# Altium footprint library WR-TBL_Spring Clamp_3.50mm.PcbLib: 32 footprints (part 2 of 2)
Each footprint in its own frame and in the unit in brackets; x right, y up, seen from the top. Pads: shape width x height; smd on the part's side, far side on the other; paste and mask are expansions set on the pad; w line width, h text height; cw(c..) or ccw(c..) is an arc to the next point about the centre after c.
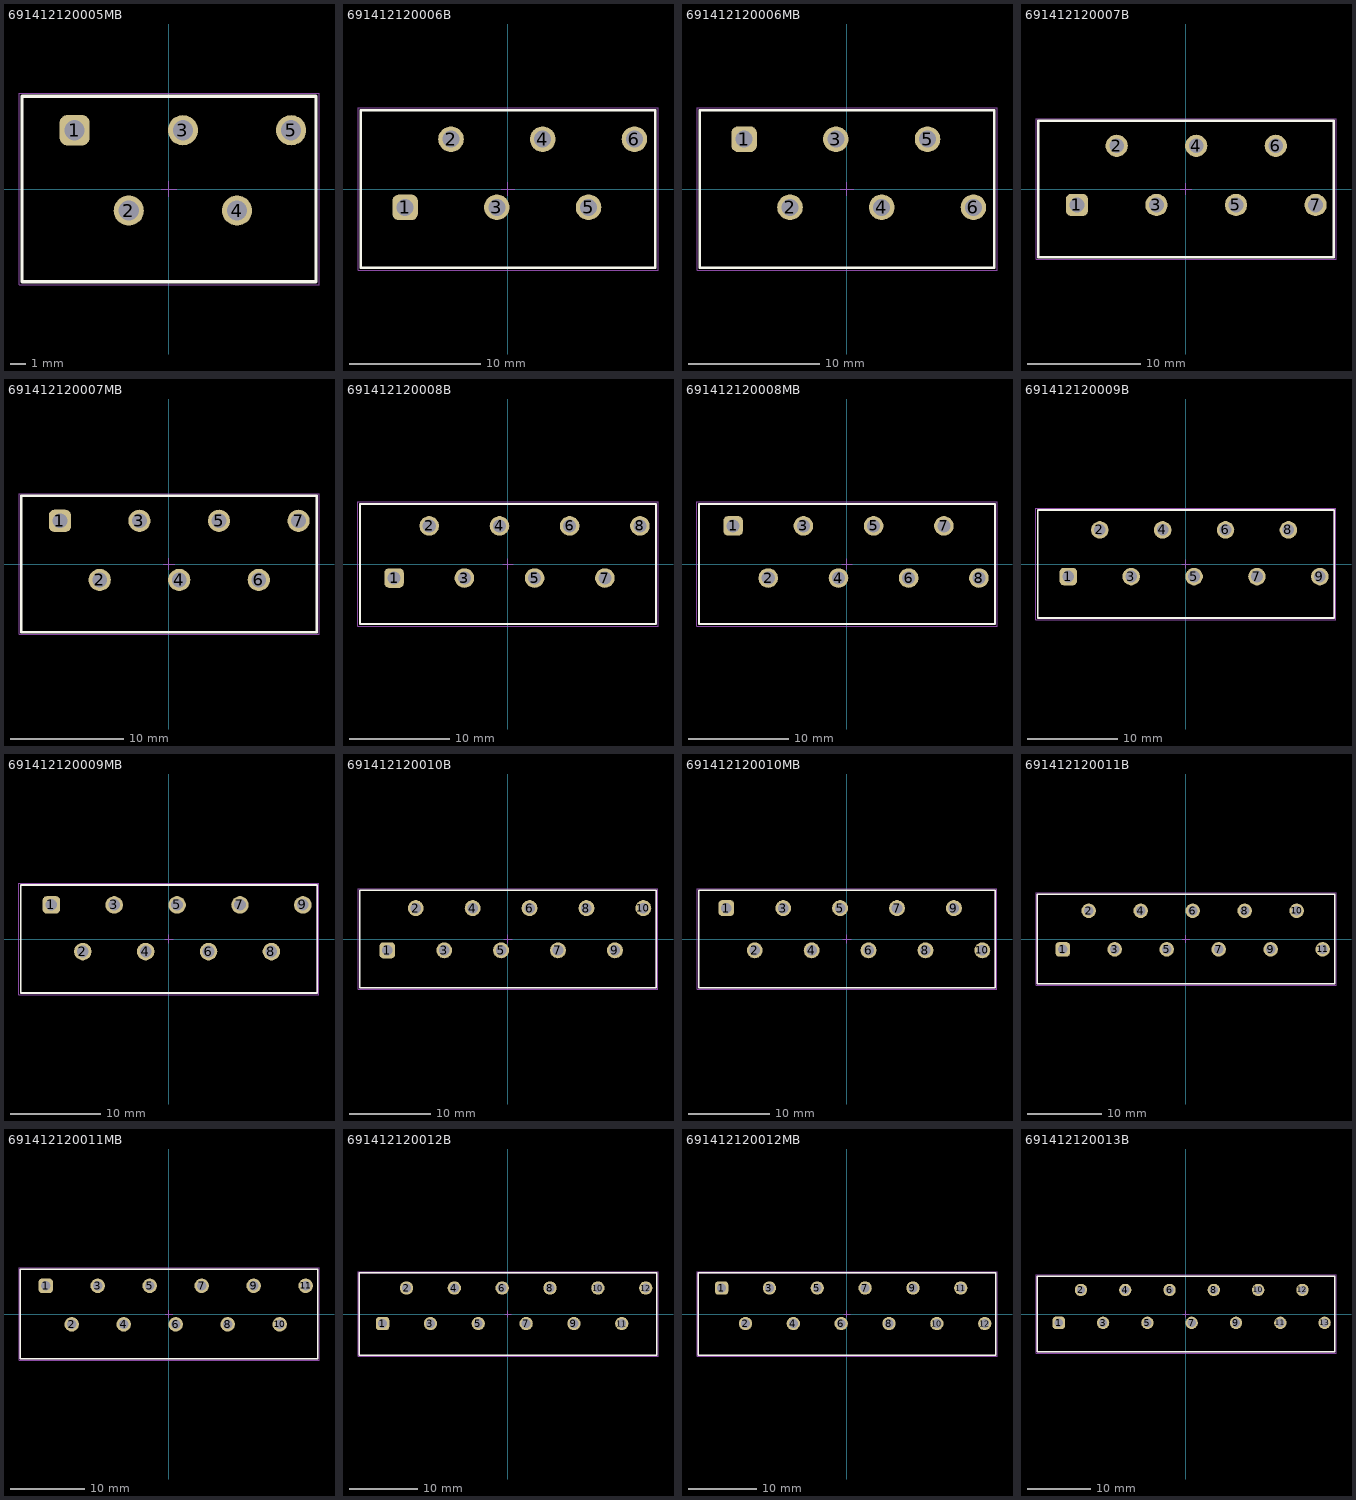
[diagram p1: the footprints below, top view; thin cyan lines are the x and y axes]

## 691412120005MB [mm] "3,5mm - Spring clamp/Screw less - 45¡ã entry - 05p"
height 11.5
pads (5):
  rrect50% 1.95x1.95 hole 1.3: 1(-6.1,3.8)
  round 1.95 hole 1.3: 2(-2.6,-1.4) 3(0.9,3.8) 4(4.4,-1.4) 5(7.9,3.8)
Top Overlay:
  lines w0.2: -9.5,-6 9.5,-6 9.5,6 -9.5,6 -9.5,-6
Top Designator:
  text ".Designator" at -7.498,-0.5 h1.5
Top Component Outline:
  lines w0.1: -9.5,-6 -9.5,6 9.5,6 9.5,-6 -9.5,-6
Top 3D Body:
  lines w0.1: -9.5,-6 9.5,-6 9.5,6 -9.5,6 -9.5,-6
Top Courtyard:
  lines w0.05: -9.7,-6.2 -9.7,6.2 9.7,6.2 9.7,-6.2 -9.7,-6.2
Top Component Center:
  lines w0.05: -0.5,0 0.5,0 ; 0,-0.5 0,0.5
3D body "691412120005MB.stp": height 12.85, standoff -3.45, extent -9.5,-6 9.5,6

## 691412120006B [mm] "3,5mm - Spring clamp/Screw less - 45¡ã entry - 06p"
height 12.8
pads (6):
  rrect50% 1.95x1.95 hole 1.3: 1(-7.85,-1.4)
  round 1.95 hole 1.3: 2(-4.35,3.8) 3(-0.85,-1.4) 4(2.65,3.8) 5(6.15,-1.4) 6(9.65,3.8)
Top Overlay:
  lines w0.2: -11.25,-6 -11.25,6 11.25,6 11.25,-6 -11.25,-6
Top Designator:
  text ".Designator" at -7.498,-0.5 h1.5
Top Component Outline:
  lines w0.1: -11.25,-6 11.25,-6 11.25,6 -11.25,6 -11.25,-6
Top 3D Body:
  lines w0.1: -11.25,-6 -11.25,6 11.25,6 11.25,-6 -11.25,-6
Top Courtyard:
  lines w0.05: -11.45,-6.2 -11.45,6.2 11.45,6.2 11.45,-6.2 -11.45,-6.2
Top Component Center:
  lines w0.05: -0.5,0 0.5,0 ; 0,-0.5 0,0.5
3D body "691412120006B.stp": height 12.85, standoff -3.45, extent -11.25,-6 11.25,6

## 691412120006MB [mm] "3,5mm - Spring clamp/Screw less - 45¡ã entry - 06p"
height 11.5
pads (6):
  rrect50% 1.95x1.95 hole 1.3: 1(-7.85,3.8)
  round 1.95 hole 1.3: 2(-4.35,-1.4) 3(-0.85,3.8) 4(2.65,-1.4) 5(6.15,3.8) 6(9.65,-1.4)
Top Overlay:
  lines w0.2: -11.25,-6 11.25,-6 11.25,6 -11.25,6 -11.25,-6
Top Designator:
  text ".Designator" at -7.498,-0.5 h1.5
Top Component Outline:
  lines w0.1: -11.25,-6 -11.25,6 11.25,6 11.25,-6 -11.25,-6
Top 3D Body:
  lines w0.1: -11.25,-6 11.25,-6 11.25,6 -11.25,6 -11.25,-6
Top Courtyard:
  lines w0.05: -11.45,-6.2 -11.45,6.2 11.45,6.2 11.45,-6.2 -11.45,-6.2
Top Component Center:
  lines w0.05: -0.5,0 0.5,0 ; 0,-0.5 0,0.5
3D body "691412120006MB.stp": height 12.85, standoff -3.45, extent -11.25,-6 11.25,6

## 691412120007B [mm] "3,5mm - Spring clamp/Screw less - 45¡ã entry - 07p"
height 12.8
pads (7):
  rrect50% 1.95x1.95 hole 1.3: 1(-9.6,-1.4)
  round 1.95 hole 1.3: 2(-6.1,3.8) 3(-2.6,-1.4) 4(0.9,3.8) 5(4.4,-1.4) 6(7.9,3.8) 7(11.4,-1.4)
Top Overlay:
  lines w0.2: -13,-6 -13,6 13,6 13,-6 -13,-6
Top Designator:
  text ".Designator" at -7.498,-0.5 h1.5
Top Component Outline:
  lines w0.1: -13,-6 13,-6 13,6 -13,6 -13,-6
Top 3D Body:
  lines w0.1: -13,-6 -13,6 13,6 13,-6 -13,-6
Top Courtyard:
  lines w0.05: -13.2,-6.2 -13.2,6.2 13.2,6.2 13.2,-6.2 -13.2,-6.2
Top Component Center:
  lines w0.05: -0.5,0 0.5,0 ; 0,-0.5 0,0.5
3D body "691412120007B.stp": height 12.85, standoff -3.45, extent -13,-6 13,6

## 691412120007MB [mm] "3,5mm - Spring clamp/Screw less - 45¡ã entry - 07p"
height 11.5
pads (7):
  rrect50% 1.95x1.95 hole 1.3: 1(-9.6,3.8)
  round 1.95 hole 1.3: 2(-6.1,-1.4) 3(-2.6,3.8) 4(0.9,-1.4) 5(4.4,3.8) 6(7.9,-1.4) 7(11.4,3.8)
Top Overlay:
  lines w0.2: -13,-6 13,-6 13,6 -13,6 -13,-6
Top Designator:
  text ".Designator" at -7.498,-0.5 h1.5
Top Component Outline:
  lines w0.1: -13,-6 -13,6 13,6 13,-6 -13,-6
Top 3D Body:
  lines w0.1: -13,-6 13,-6 13,6 -13,6 -13,-6
Top Courtyard:
  lines w0.05: -13.2,-6.2 -13.2,6.2 13.2,6.2 13.2,-6.2 -13.2,-6.2
Top Component Center:
  lines w0.05: -0.5,0 0.5,0 ; 0,-0.5 0,0.5
3D body "691412120007MB.stp": height 12.85, standoff -3.45, extent -13,-6 13,6

## 691412120008B [mm] "3,5mm - Spring clamp/Screw less - 45¡ã entry - 08p"
height 12.8
pads (8):
  rrect50% 1.95x1.95 hole 1.3: 1(-11.35,-1.4)
  round 1.95 hole 1.3: 2(-7.85,3.8) 3(-4.35,-1.4) 4(-0.85,3.8) 5(2.65,-1.4) 6(6.15,3.8) 7(9.65,-1.4) 8(13.15,3.8)
Top Overlay:
  lines w0.2: -14.75,-6 14.75,-6 14.75,6 -14.75,6 -14.75,-6
Top Designator:
  text ".Designator" at -7.498,-0.5 h1.5
Top Component Outline:
  lines w0.1: -14.75,-6 -14.75,6 14.75,6 14.75,-6 -14.75,-6
Top 3D Body:
  lines w0.1: -14.75,-6 14.75,-6 14.75,6 -14.75,6 -14.75,-6
Top Courtyard:
  lines w0.05: -14.95,-6.2 14.95,-6.2 14.95,6.2 -14.95,6.2 -14.95,-6.2
Top Component Center:
  lines w0.05: -0.5,0 0.5,0 ; 0,-0.5 0,0.5
3D body "691412120008B.stp": height 12.85, standoff -3.45, extent -14.75,-6 14.75,6

## 691412120008MB [mm] "3,5mm - Spring clamp/Screw less - 45¡ã entry - 08p"
height 11.5
pads (8):
  rrect50% 1.95x1.95 hole 1.3: 1(-11.35,3.8)
  round 1.95 hole 1.3: 2(-7.85,-1.4) 3(-4.35,3.8) 4(-0.85,-1.4) 5(2.65,3.8) 6(6.15,-1.4) 7(9.65,3.8) 8(13.15,-1.4)
Top Overlay:
  lines w0.2: -14.75,-6 -14.75,6 14.75,6 14.75,-6 -14.75,-6
Top Designator:
  text ".Designator" at -7.498,-0.5 h1.5
Top Component Outline:
  lines w0.1: -14.75,-6 14.75,-6 14.75,6 -14.75,6 -14.75,-6
Top 3D Body:
  lines w0.1: -14.75,-6 -14.75,6 14.75,6 14.75,-6 -14.75,-6
Top Courtyard:
  lines w0.05: -14.95,-6.2 14.95,-6.2 14.95,6.2 -14.95,6.2 -14.95,-6.2
Top Component Center:
  lines w0.05: -0.5,0 0.5,0 ; 0,-0.5 0,0.5
3D body "691412120008MB.stp": height 12.85, standoff -3.45, extent -14.75,-6 14.75,6

## 691412120009B [mm] "3,5mm - Spring clamp/Screw less - 45¡ã entry - 09p"
height 12.8
pads (9):
  rrect50% 1.95x1.95 hole 1.3: 1(-13.1,-1.4)
  round 1.95 hole 1.3: 2(-9.6,3.8) 3(-6.1,-1.4) 4(-2.6,3.8) 5(0.9,-1.4) 6(4.4,3.8) 7(7.9,-1.4) 8(11.4,3.8) 9(14.9,-1.4)
Top Overlay:
  lines w0.2: -16.5,-6 16.5,-6 16.5,6 -16.5,6 -16.5,-6
Top Designator:
  text ".Designator" at -7.498,-0.5 h1.5
Top Component Outline:
  lines w0.1: -16.5,-6 -16.5,6 16.5,6 16.5,-6 -16.5,-6
Top 3D Body:
  lines w0.1: -16.5,-6 16.5,-6 16.5,6 -16.5,6 -16.5,-6
Top Courtyard:
  lines w0.05: -16.7,-6.2 16.7,-6.2 16.7,6.2 -16.7,6.2 -16.7,-6.2
Top Component Center:
  lines w0.05: -0.5,0 0.5,0 ; 0,-0.5 0,0.5
3D body "691412120009B.stp": height 12.85, standoff -3.45, extent -16.5,-6 16.5,6

## 691412120009MB [mm] "3,5mm - Spring clamp/Screw less - 45¡ã entry - 09p"
height 11.5
pads (9):
  rrect50% 1.95x1.95 hole 1.3: 1(-13.1,3.8)
  round 1.95 hole 1.3: 2(-9.6,-1.4) 3(-6.1,3.8) 4(-2.6,-1.4) 5(0.9,3.8) 6(4.4,-1.4) 7(7.9,3.8) 8(11.4,-1.4) 9(14.9,3.8)
Top Overlay:
  lines w0.2: -16.5,-6 16.5,-6 16.5,6 -16.5,6 -16.5,-6
Top Designator:
  text ".Designator" at -7.498,-0.5 h1.5
Top Component Outline:
  lines w0.1: -16.5,-6 -16.5,6 16.5,6 16.5,-6 -16.5,-6
Top 3D Body:
  lines w0.1: -16.5,-6 16.5,-6 16.5,6 -16.5,6 -16.5,-6
Top Courtyard:
  lines w0.05: -16.7,-6.2 -16.7,6.2 16.7,6.2 16.7,-6.2 -16.7,-6.2
Top Component Center:
  lines w0.05: -0.5,0 0.5,0 ; 0,-0.5 0,0.5
3D body "691412120009MB.stp": height 12.85, standoff -3.45, extent -16.5,-6 16.5,6

## 691412120010B [mm] "3,5mm - Spring clamp/Screw less - 45¡ã entry - 10p"
height 12.8
pads (10):
  rrect50% 1.95x1.95 hole 1.3: 1(-14.85,-1.4)
  round 1.95 hole 1.3: 2(-11.35,3.8) 3(-7.85,-1.4) 4(-4.35,3.8) 5(-0.85,-1.4) 6(2.65,3.8) 7(6.15,-1.4) 8(9.65,3.8) 9(13.15,-1.4) 10(16.65,3.8)
Top Overlay:
  lines w0.2: -18.25,-6 18.25,-6 18.25,6 -18.25,6 -18.25,-6
Top Designator:
  text ".Designator" at -7.498,-0.5 h1.5
Top Component Outline:
  lines w0.1: -18.25,-6 -18.25,6 18.25,6 18.25,-6 -18.25,-6
Top 3D Body:
  lines w0.1: -18.25,-6 18.25,-6 18.25,6 -18.25,6 -18.25,-6
Top Courtyard:
  lines w0.05: -18.45,-6.2 18.45,-6.2 18.45,6.2 -18.45,6.2 -18.45,-6.2
Top Component Center:
  lines w0.05: -0.5,0 0.5,0 ; 0,-0.5 0,0.5
3D body "691412120010B.stp": height 12.85, standoff -3.45, extent -18.25,-6 18.25,6

## 691412120010MB [mm] "3,5mm - Spring clamp/Screw less - 45¡ã entry - 10p"
height 11.5
pads (10):
  rrect50% 1.95x1.95 hole 1.3: 1(-14.85,3.8)
  round 1.95 hole 1.3: 2(-11.35,-1.4) 3(-7.85,3.8) 4(-4.35,-1.4) 5(-0.85,3.8) 6(2.65,-1.4) 7(6.15,3.8) 8(9.65,-1.4) 9(13.15,3.8) 10(16.65,-1.4)
Top Overlay:
  lines w0.2: -18.25,-6 -18.25,6 18.25,6 18.25,-6 -18.25,-6
Top Designator:
  text ".Designator" at -7.498,-0.5 h1.5
Top Component Outline:
  lines w0.1: -18.25,-6 18.25,-6 18.25,6 -18.25,6 -18.25,-6
Top 3D Body:
  lines w0.1: -18.25,-6 -18.25,6 18.25,6 18.25,-6 -18.25,-6
Top Courtyard:
  lines w0.05: -18.45,-6.2 18.45,-6.2 18.45,6.2 -18.45,6.2 -18.45,-6.2
Top Component Center:
  lines w0.05: -0.5,0 0.5,0 ; 0,-0.5 0,0.5
3D body "691412120010MB.stp": height 12.85, standoff -3.45, extent -18.25,-6 18.25,6

## 691412120011B [mm] "3,5mm - Spring clamp/Screw less - 45¡ã entry - 11p"
height 12.8
pads (11):
  rrect50% 1.95x1.95 hole 1.3: 1(-16.6,-1.4)
  round 1.95 hole 1.3: 2(-13.1,3.8) 3(-9.6,-1.4) 4(-6.1,3.8) 5(-2.6,-1.4) 6(0.9,3.8) 7(4.4,-1.4) 8(7.9,3.8) 9(11.4,-1.4) 10(14.9,3.8) 11(18.4,-1.4)
Top Overlay:
  lines w0.2: -20,-6 -20,6 20,6 20,-6 -20,-6
Top Designator:
  text ".Designator" at -7.498,-0.5 h1.5
Top Component Outline:
  lines w0.1: -20,-6 20,-6 20,6 -20,6 -20,-6
Top 3D Body:
  lines w0.1: -20,-6 -20,6 20,6 20,-6 -20,-6
Top Courtyard:
  lines w0.05: -20.2,-6.2 -20.2,6.2 20.2,6.2 20.2,-6.2 -20.2,-6.2
Top Component Center:
  lines w0.05: -0.5,0 0.5,0 ; 0,-0.5 0,0.5
3D body "691412120011B.stp": height 12.85, standoff -3.45, extent -20,-6 20,6

## 691412120011MB [mm] "3,5mm - Spring clamp/Screw less - 45¡ã entry - 11p"
height 11.5
pads (11):
  rrect50% 1.95x1.95 hole 1.3: 1(-16.6,3.8)
  round 1.95 hole 1.3: 2(-13.1,-1.4) 3(-9.6,3.8) 4(-6.1,-1.4) 5(-2.6,3.8) 6(0.9,-1.4) 7(4.4,3.8) 8(7.9,-1.4) 9(11.4,3.8) 10(14.9,-1.4) 11(18.4,3.8)
Top Overlay:
  lines w0.2: -20,-6 -20,6 20,6 20,-6 -20,-6
Top Designator:
  text ".Designator" at -7.498,-0.5 h1.5
Top Component Outline:
  lines w0.1: -20,-6 20,-6 20,6 -20,6 -20,-6
Top 3D Body:
  lines w0.1: -20,-6 -20,6 20,6 20,-6 -20,-6
Top Courtyard:
  lines w0.05: -20.2,-6.2 20.2,-6.2 20.2,6.2 -20.2,6.2 -20.2,-6.2
Top Component Center:
  lines w0.05: -0.5,0 0.5,0 ; 0,-0.5 0,0.5
3D body "691412120011MB.stp": height 12.85, standoff -3.45, extent -20,-6 20,6

## 691412120012B [mm] "3,5mm - Spring clamp/Screw less - 45¡ã entry - 12p"
height 12.8
pads (12):
  rrect50% 1.95x1.95 hole 1.3: 1(-18.35,-1.4)
  round 1.95 hole 1.3: 2(-14.85,3.8) 3(-11.35,-1.4) 4(-7.85,3.8) 5(-4.35,-1.4) 6(-0.85,3.8) 7(2.65,-1.4) 8(6.15,3.8) 9(9.65,-1.4) 10(13.15,3.8) 11(16.65,-1.4) 12(20.15,3.8)
Top Overlay:
  lines w0.2: -21.75,-6 -21.75,6 21.75,6 21.75,-6 -21.75,-6
Top Designator:
  text ".Designator" at -7.498,-0.5 h1.5
Top Component Outline:
  lines w0.1: -21.75,-6 21.75,-6 21.75,6 -21.75,6 -21.75,-6
Top 3D Body:
  lines w0.1: -21.75,-6 -21.75,6 21.75,6 21.75,-6 -21.75,-6
Top Courtyard:
  lines w0.05: -21.95,-6.2 -21.95,6.2 21.95,6.2 21.95,-6.2 -21.95,-6.2
Top Component Center:
  lines w0.05: -0.5,0 0.5,0 ; 0,-0.5 0,0.5
3D body "691412120012B.stp": height 12.85, standoff -3.45, extent -21.75,-6 21.75,6

## 691412120012MB [mm] "3,5mm - Spring clamp/Screw less - 45¡ã entry - 12p"
height 11.5
pads (12):
  rrect50% 1.95x1.95 hole 1.3: 1(-18.35,3.8)
  round 1.95 hole 1.3: 2(-14.85,-1.4) 3(-11.35,3.8) 4(-7.85,-1.4) 5(-4.35,3.8) 6(-0.85,-1.4) 7(2.65,3.8) 8(6.15,-1.4) 9(9.65,3.8) 10(13.15,-1.4) 11(16.65,3.8) 12(20.15,-1.4)
Top Overlay:
  lines w0.2: -21.75,-6 -21.75,6 21.75,6 21.75,-6 -21.75,-6
Top Designator:
  text ".Designator" at -7.498,-0.5 h1.5
Top Component Outline:
  lines w0.1: -21.75,-6 21.75,-6 21.75,6 -21.75,6 -21.75,-6
Top 3D Body:
  lines w0.1: -21.75,-6 -21.75,6 21.75,6 21.75,-6 -21.75,-6
Top Courtyard:
  lines w0.05: -21.95,-6.2 21.95,-6.2 21.95,6.2 -21.95,6.2 -21.95,-6.2
Top Component Center:
  lines w0.05: -0.5,0 0.5,0 ; 0,-0.5 0,0.5
3D body "691412120012MB.stp": height 12.85, standoff -3.45, extent -21.75,-6 21.75,6

## 691412120013B [mm] "3,5mm - Spring clamp/Screw less - 45¡ã entry - 13p"
height 12.8
pads (13):
  rrect50% 1.95x1.95 hole 1.3: 1(-20.1,-1.4)
  round 1.95 hole 1.3: 2(-16.6,3.8) 3(-13.1,-1.4) 4(-9.6,3.8) 5(-6.1,-1.4) 6(-2.6,3.8) 7(0.9,-1.4) 8(4.4,3.8) 9(7.9,-1.4) 10(11.4,3.8) 11(14.9,-1.4) 12(18.4,3.8) 13(21.9,-1.4)
Top Overlay:
  lines w0.2: -23.5,-6 23.5,-6 23.5,6 -23.5,6 -23.5,-6
Top Designator:
  text ".Designator" at -7.498,-0.5 h1.5
Top Component Outline:
  lines w0.1: -23.5,-6 -23.5,6 23.5,6 23.5,-6 -23.5,-6
Top 3D Body:
  lines w0.1: -23.5,-6 23.5,-6 23.5,6 -23.5,6 -23.5,-6
Top Courtyard:
  lines w0.05: -23.7,-6.2 23.7,-6.2 23.7,6.2 -23.7,6.2 -23.7,-6.2
Top Component Center:
  lines w0.05: -0.5,0 0.5,0 ; 0,-0.5 0,0.5
3D body "691412120013B.stp": height 12.85, standoff -3.45, extent -23.5,-6 23.5,6